# Altium integrated library Linear Technology Power Management System Supervisor, Monitor and Control.IntLib: 1611 symbols (part 1 of 100)
Pins are listed as number, name and electrical type; pins without a type are passive.

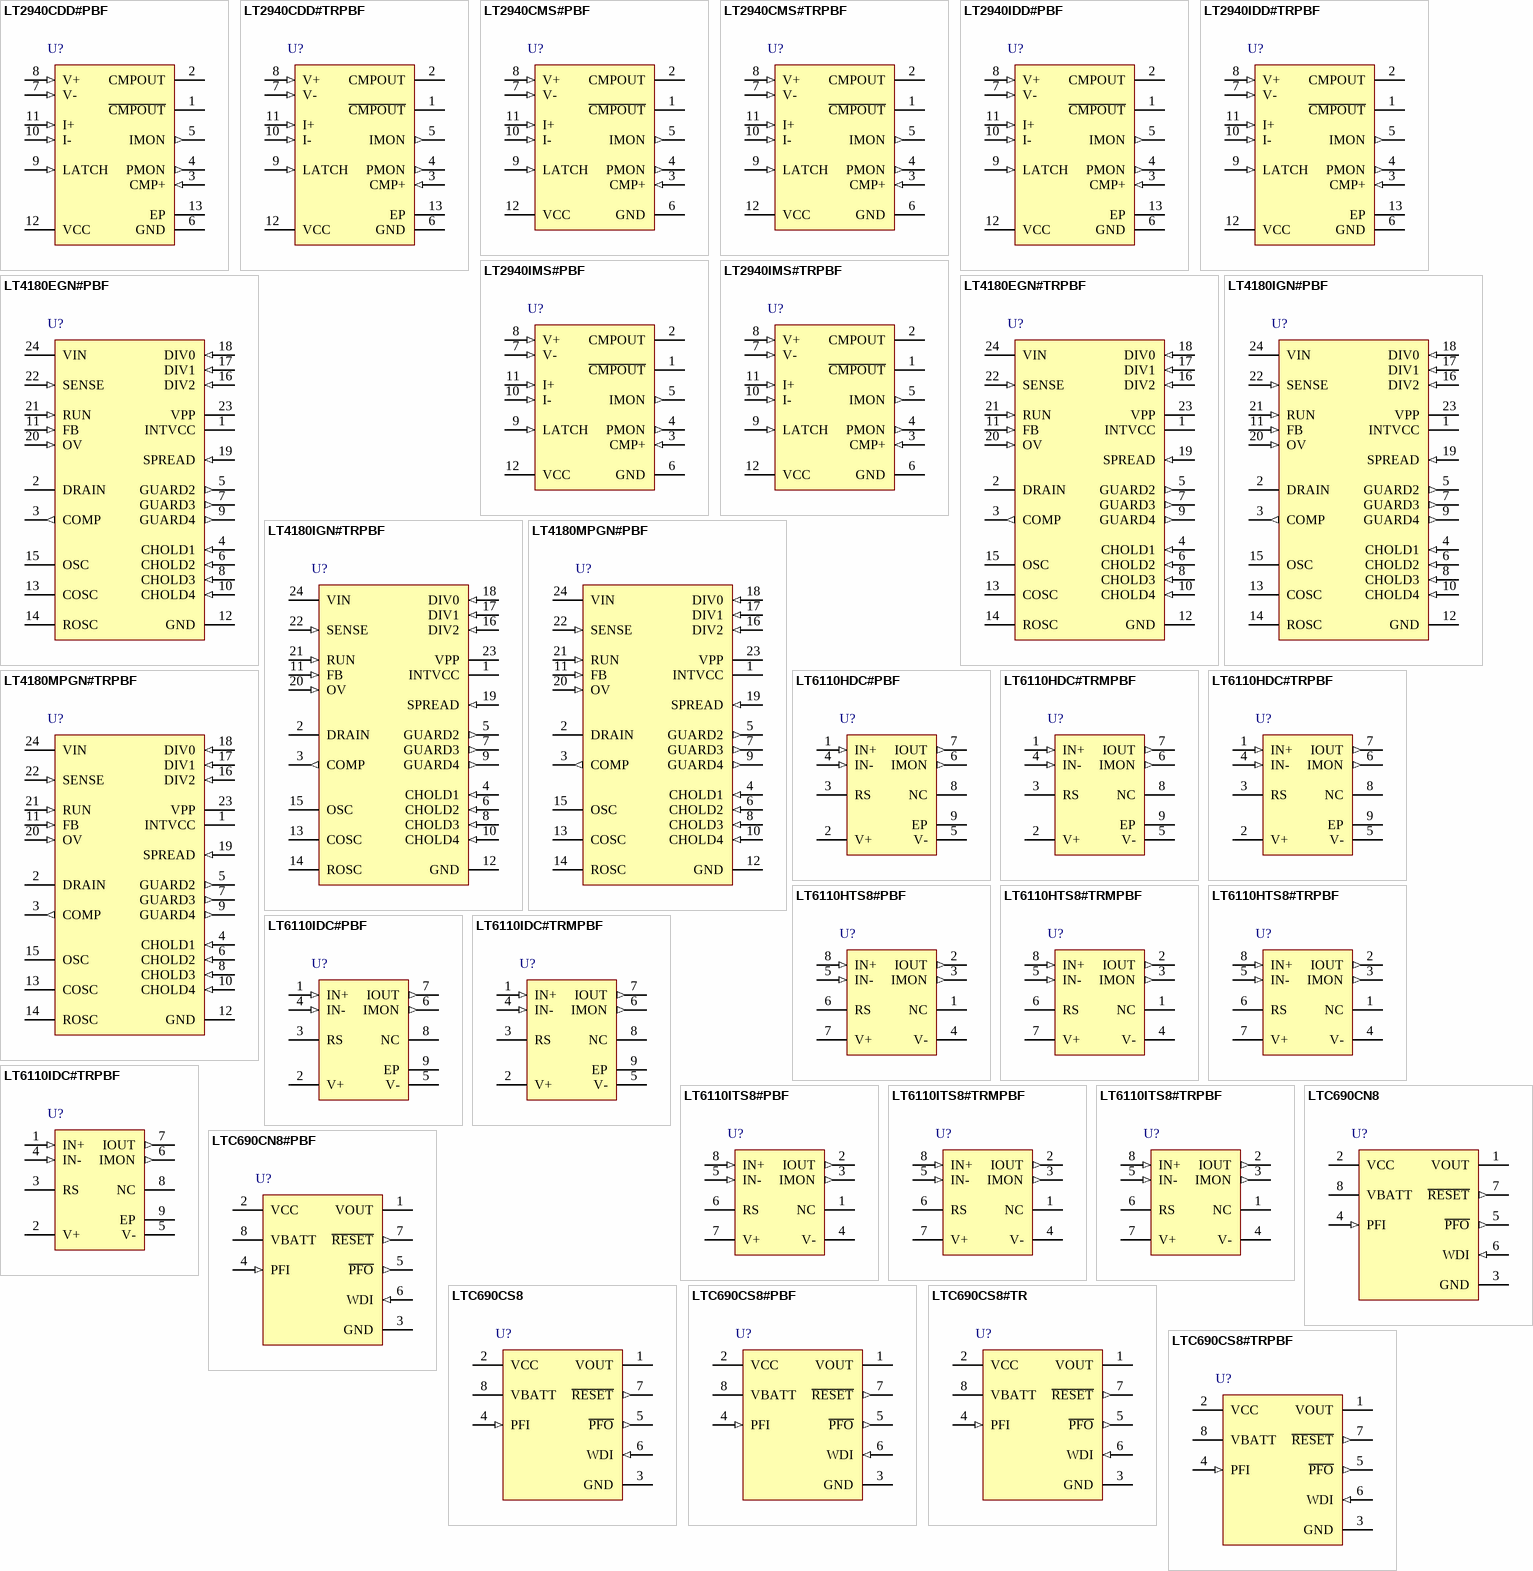
[diagram p0: symbols LT2940CDD#PBF to LTC690CS8#TRPBF]

## LT2940CDD#PBF
designator U?
Power and Current Monitor, 12-pin SON (DD-12), 0 to 70 degC, Pb-Free; Manufacturer: Linear Technology; PartNumber: LT2940CDD#PBF; Number of Supplies(#): 1; PackageVersion: Rev. A, 06/2010; PackageReference: DD-12; PackageDescription: 12-Pin Plastic DFN, Body 3 x 3 mm, Pitch 0.45 mm; Supplier 1: Digi-Key; Supplier Part Number 1: LT2940CDD#PBF-ND; Supplier 2: Farnell; Supplier Part Number 2: 1839156; Supplier 3: Newark; Supplier Part Number 3: 52R9871; RoHS: TRUE; Mounting Technology: Surface Mount; ComponentLink1Description: Manufacturer URL; ComponentLink1URL: http://www.linear.com/; ComponentLink2Description: Datasheet; ComponentLink2URL: http://cds.linear.com/docs/en/datasheet/2940f.pdf; ComponentLink3Description: Package Specification; ComponentLink3URL: http://cds.linear.com/docs/en/packaging/DFN_12_05-08-1725.pdf
footprint LT-DD-12_V (SON, 12-Leads, Body 3x3mm, Pitch 0.45mm, Thermal Pad 2.38x1.65mm)
pins: 1 ~{CMPOUT} (oc) "Inverting Open-Collector Comparator Output. When the LATCH pin’s state does not override the comparator, C\M\P\O\U\T\ pulls low when CMP+ > 1.24V. The pull-down shuts off when CMP+ < 1.21V, or VCC < 2.5V or when the LATC(See Datasheet)", 2 CMPOUT (oc) "Noninverting Open-Collector Comparator Output. When the LATCH pin’s state does not override the comparator, CMPOUT pulls low when CMP+ < 1.21V, or VCC < 2.5V, or when the LATCH pin is low. The pull-down shuts off when CMP(See Datasheet)", 3 CMP+ (in) "Positive Comparator Input. The integrated comparator resolves to high when the pin voltage exceeds the 1.24V internal reference. The comparator input has 35mV of negative hysteresis, which makes its falling trip point (See Datasheet)", 4 PMON (out) "Proportional-to-Power Monitor Output. This push-pull output sources or sinks a current proportional to the product of the voltage sense and current sense inputs. A resistor from PMON to GND creates a positive voltage when (See Datasheet)", 5 IMON (out) "Proportional-to-Current Monitor Output. This push-pull output sources or sinks a current proportional to the voltage at the current sense input, which is typically generated by a sense resistor that measures a current. A (See Datasheet)", 6 GND (power) "Device Ground.", 7 V- (in) "Voltage Sense Inputs. The voltage difference between these pins is the voltage input factor to the power calculation multiplier. The difference may be positive or negative, but both pin voltages must be at or above GND - (See Datasheet)", 8 V+ (in) "Voltage Sense Inputs. The voltage difference between these pins is the voltage input factor to the power calculation multiplier. The difference may be positive or negative, but both pin voltages must be at or above GND - (See Datasheet)", 9 LATCH (in) "Comparator Mode Input. Conditions at this three-state input pin control the comparator’s behavior. When LATCH is open, the comparator’s outputs track its input conditions (with hysteresis). When LATCH is held above 2.(See Datasheet)", 10 I- (in) "Current Sense Inputs. The voltage difference at these pins represents the current input factor to the power calculation multiplier and to the current scaler. The difference may be positive or negative, but both pin voltages (See Datasheet)", 11 I+ (in) "Current Sense Inputs. The voltage difference at these pins represents the current input factor to the power calculation multiplier and to the current scaler. The difference may be positive or negative, but both pin voltages (See Datasheet)", 12 VCC (power) "Voltage Supply. The voltage supply operating range is 6V to 80V. When operating with VCC > 15V, package heating can be reduced by adding an external series dropping resistor. Bypass this pin to GND to improve supply (See Datasheet)", 13 EP (power) "The exposed pad may be left open or connected to device ground. For best thermal performance, the exposed pad must be soldered to the PCB."

## LT2940CDD#TRPBF
designator U?
Power and Current Monitor, 12-pin SON (DD-12), 0 to 70 degC, Pb-Free, Tape and Reel; Manufacturer: Linear Technology; PartNumber: LT2940CDD#TRPBF; Number of Supplies(#): 1; PackageVersion: Rev. A, 06/2010; PackageReference: DD-12; PackageDescription: 12-Pin Plastic DFN, Body 3 x 3 mm, Pitch 0.45 mm; Supplier 1: Digi-Key; Supplier Part Number 1: LT2940CDD#TRPBF-ND; Packing: Tape and Reel; RoHS: TRUE; Mounting Technology: Surface Mount; ComponentLink1Description: Manufacturer URL; ComponentLink1URL: http://www.linear.com/; ComponentLink2Description: Datasheet; ComponentLink2URL: http://cds.linear.com/docs/en/datasheet/2940f.pdf; ComponentLink3Description: Package Specification; ComponentLink3URL: http://cds.linear.com/docs/en/packaging/DFN_12_05-08-1725.pdf
footprint LT-DD-12_V (SON, 12-Leads, Body 3x3mm, Pitch 0.45mm, Thermal Pad 2.38x1.65mm)
pins: 1 ~{CMPOUT} (oc) "Inverting Open-Collector Comparator Output. When the LATCH pin’s state does not override the comparator, C\M\P\O\U\T\ pulls low when CMP+ > 1.24V. The pull-down shuts off when CMP+ < 1.21V, or VCC < 2.5V or when the LATC(See Datasheet)", 2 CMPOUT (oc) "Noninverting Open-Collector Comparator Output. When the LATCH pin’s state does not override the comparator, CMPOUT pulls low when CMP+ < 1.21V, or VCC < 2.5V, or when the LATCH pin is low. The pull-down shuts off when CMP(See Datasheet)", 3 CMP+ (in) "Positive Comparator Input. The integrated comparator resolves to high when the pin voltage exceeds the 1.24V internal reference. The comparator input has 35mV of negative hysteresis, which makes its falling trip point (See Datasheet)", 4 PMON (out) "Proportional-to-Power Monitor Output. This push-pull output sources or sinks a current proportional to the product of the voltage sense and current sense inputs. A resistor from PMON to GND creates a positive voltage when (See Datasheet)", 5 IMON (out) "Proportional-to-Current Monitor Output. This push-pull output sources or sinks a current proportional to the voltage at the current sense input, which is typically generated by a sense resistor that measures a current. A (See Datasheet)", 6 GND (power) "Device Ground.", 7 V- (in) "Voltage Sense Inputs. The voltage difference between these pins is the voltage input factor to the power calculation multiplier. The difference may be positive or negative, but both pin voltages must be at or above GND - (See Datasheet)", 8 V+ (in) "Voltage Sense Inputs. The voltage difference between these pins is the voltage input factor to the power calculation multiplier. The difference may be positive or negative, but both pin voltages must be at or above GND - (See Datasheet)", 9 LATCH (in) "Comparator Mode Input. Conditions at this three-state input pin control the comparator’s behavior. When LATCH is open, the comparator’s outputs track its input conditions (with hysteresis). When LATCH is held above 2.(See Datasheet)", 10 I- (in) "Current Sense Inputs. The voltage difference at these pins represents the current input factor to the power calculation multiplier and to the current scaler. The difference may be positive or negative, but both pin voltages (See Datasheet)", 11 I+ (in) "Current Sense Inputs. The voltage difference at these pins represents the current input factor to the power calculation multiplier and to the current scaler. The difference may be positive or negative, but both pin voltages (See Datasheet)", 12 VCC (power) "Voltage Supply. The voltage supply operating range is 6V to 80V. When operating with VCC > 15V, package heating can be reduced by adding an external series dropping resistor. Bypass this pin to GND to improve supply (See Datasheet)", 13 EP (power) "The exposed pad may be left open or connected to device ground. For best thermal performance, the exposed pad must be soldered to the PCB."

## LT2940CMS#PBF
designator U?
Power and Current Monitor, 12-pin SOP (MS-12), 0 to 70 degC, Pb-Free; Manufacturer: Linear Technology; PartNumber: LT2940CMS#PBF; Number of Supplies(#): 1; PackageVersion: Rev. A, 05/2013; PackageReference: MS-12; PackageDescription: 12-Pin Plastic MSOP, Body 4.039 x 3 mm, Pitch 0.65 mm; Supplier 1: Digi-Key; Supplier Part Number 1: LT2940CMS#PBF-ND; Supplier 2: Farnell; Supplier Part Number 2: 1839157; Supplier 3: Newark; Supplier Part Number 3: 52R9872; RoHS: TRUE; Mounting Technology: Surface Mount; ComponentLink1Description: Manufacturer URL; ComponentLink1URL: http://www.linear.com/; ComponentLink2Description: Datasheet; ComponentLink2URL: http://cds.linear.com/docs/en/datasheet/2940f.pdf; ComponentLink3Description: Package Specification; ComponentLink3URL: http://cds.linear.com/docs/en/packaging/05081668_A_MS12.pdf
footprint LT-MS-12_N (SOP, 12-Leads, Body 4.1x3.1mm, Pitch 0.65mm, IPC Medium Density)
footprint LT-MS-12_L (SOP, 12-Leads, Body 4.1x3.1mm, Pitch 0.65mm, IPC High Density)
footprint LT-MS-12_M (SOP, 12-Leads, Body 4.1x3.1mm, Pitch 0.65mm, IPC Low Density)
pins: 1 ~{CMPOUT} (oc) "Inverting Open-Collector Comparator Output. When the LATCH pin’s state does not override the comparator, C\M\P\O\U\T\ pulls low when CMP+ > 1.24V. The pull-down shuts off when CMP+ < 1.21V, or VCC < 2.5V or when the LATC(See Datasheet)", 2 CMPOUT (oc) "Noninverting Open-Collector Comparator Output. When the LATCH pin’s state does not override the comparator, CMPOUT pulls low when CMP+ < 1.21V, or VCC < 2.5V, or when the LATCH pin is low. The pull-down shuts off when CMP(See Datasheet)", 3 CMP+ (in) "Positive Comparator Input. The integrated comparator resolves to high when the pin voltage exceeds the 1.24V internal reference. The comparator input has 35mV of negative hysteresis, which makes its falling trip point (See Datasheet)", 4 PMON (out) "Proportional-to-Power Monitor Output. This push-pull output sources or sinks a current proportional to the product of the voltage sense and current sense inputs. A resistor from PMON to GND creates a positive voltage when (See Datasheet)", 5 IMON (out) "Proportional-to-Current Monitor Output. This push-pull output sources or sinks a current proportional to the voltage at the current sense input, which is typically generated by a sense resistor that measures a current. A (See Datasheet)", 6 GND (power) "Device Ground.", 7 V- (in) "Voltage Sense Inputs. The voltage difference between these pins is the voltage input factor to the power calculation multiplier. The difference may be positive or negative, but both pin voltages must be at or above GND - (See Datasheet)", 8 V+ (in) "Voltage Sense Inputs. The voltage difference between these pins is the voltage input factor to the power calculation multiplier. The difference may be positive or negative, but both pin voltages must be at or above GND - (See Datasheet)", 9 LATCH (in) "Comparator Mode Input. Conditions at this three-state input pin control the comparator’s behavior. When LATCH is open, the comparator’s outputs track its input conditions (with hysteresis). When LATCH is held above 2.(See Datasheet)", 10 I- (in) "Current Sense Inputs. The voltage difference at these pins represents the current input factor to the power calculation multiplier and to the current scaler. The difference may be positive or negative, but both pin voltages (See Datasheet)", 11 I+ (in) "Current Sense Inputs. The voltage difference at these pins represents the current input factor to the power calculation multiplier and to the current scaler. The difference may be positive or negative, but both pin voltages (See Datasheet)", 12 VCC (power) "Voltage Supply. The voltage supply operating range is 6V to 80V. When operating with VCC > 15V, package heating can be reduced by adding an external series dropping resistor. Bypass this pin to GND to improve supply (See Datasheet)"

## LT2940CMS#TRPBF
designator U?
Power and Current Monitor, 12-pin SOP (MS-12), 0 to 70 degC, Pb-Free, Tape and Reel; Manufacturer: Linear Technology; PartNumber: LT2940CMS#TRPBF; Number of Supplies(#): 1; PackageVersion: Rev. A, 05/2013; PackageReference: MS-12; PackageDescription: 12-Pin Plastic MSOP, Body 4.039 x 3 mm, Pitch 0.65 mm; Supplier 1: Digi-Key; Supplier Part Number 1: LT2940CMS#TRPBF-ND; Packing: Tape and Reel; RoHS: TRUE; Mounting Technology: Surface Mount; ComponentLink1Description: Manufacturer URL; ComponentLink1URL: http://www.linear.com/; ComponentLink2Description: Datasheet; ComponentLink2URL: http://cds.linear.com/docs/en/datasheet/2940f.pdf; ComponentLink3Description: Package Specification; ComponentLink3URL: http://cds.linear.com/docs/en/packaging/05081668_A_MS12.pdf
footprint LT-MS-12_N (SOP, 12-Leads, Body 4.1x3.1mm, Pitch 0.65mm, IPC Medium Density)
footprint LT-MS-12_L (SOP, 12-Leads, Body 4.1x3.1mm, Pitch 0.65mm, IPC High Density)
footprint LT-MS-12_M (SOP, 12-Leads, Body 4.1x3.1mm, Pitch 0.65mm, IPC Low Density)
pins: 1 ~{CMPOUT} (oc) "Inverting Open-Collector Comparator Output. When the LATCH pin’s state does not override the comparator, C\M\P\O\U\T\ pulls low when CMP+ > 1.24V. The pull-down shuts off when CMP+ < 1.21V, or VCC < 2.5V or when the LATC(See Datasheet)", 2 CMPOUT (oc) "Noninverting Open-Collector Comparator Output. When the LATCH pin’s state does not override the comparator, CMPOUT pulls low when CMP+ < 1.21V, or VCC < 2.5V, or when the LATCH pin is low. The pull-down shuts off when CMP(See Datasheet)", 3 CMP+ (in) "Positive Comparator Input. The integrated comparator resolves to high when the pin voltage exceeds the 1.24V internal reference. The comparator input has 35mV of negative hysteresis, which makes its falling trip point (See Datasheet)", 4 PMON (out) "Proportional-to-Power Monitor Output. This push-pull output sources or sinks a current proportional to the product of the voltage sense and current sense inputs. A resistor from PMON to GND creates a positive voltage when (See Datasheet)", 5 IMON (out) "Proportional-to-Current Monitor Output. This push-pull output sources or sinks a current proportional to the voltage at the current sense input, which is typically generated by a sense resistor that measures a current. A (See Datasheet)", 6 GND (power) "Device Ground.", 7 V- (in) "Voltage Sense Inputs. The voltage difference between these pins is the voltage input factor to the power calculation multiplier. The difference may be positive or negative, but both pin voltages must be at or above GND - (See Datasheet)", 8 V+ (in) "Voltage Sense Inputs. The voltage difference between these pins is the voltage input factor to the power calculation multiplier. The difference may be positive or negative, but both pin voltages must be at or above GND - (See Datasheet)", 9 LATCH (in) "Comparator Mode Input. Conditions at this three-state input pin control the comparator’s behavior. When LATCH is open, the comparator’s outputs track its input conditions (with hysteresis). When LATCH is held above 2.(See Datasheet)", 10 I- (in) "Current Sense Inputs. The voltage difference at these pins represents the current input factor to the power calculation multiplier and to the current scaler. The difference may be positive or negative, but both pin voltages (See Datasheet)", 11 I+ (in) "Current Sense Inputs. The voltage difference at these pins represents the current input factor to the power calculation multiplier and to the current scaler. The difference may be positive or negative, but both pin voltages (See Datasheet)", 12 VCC (power) "Voltage Supply. The voltage supply operating range is 6V to 80V. When operating with VCC > 15V, package heating can be reduced by adding an external series dropping resistor. Bypass this pin to GND to improve supply (See Datasheet)"

## LT2940IDD#PBF
designator U?
Power and Current Monitor, 12-pin SON (DD-12), -40 to 85 degC, Pb-Free; Manufacturer: Linear Technology; PartNumber: LT2940IDD#PBF; Number of Supplies(#): 1; PackageVersion: Rev. A, 06/2010; PackageReference: DD-12; PackageDescription: 12-Pin Plastic DFN, Body 3 x 3 mm, Pitch 0.45 mm; Supplier 1: Digi-Key; Supplier Part Number 1: LT2940IDD#PBF-ND; Supplier 2: Farnell; Supplier Part Number 2: 1839158; Supplier 3: Newark; Supplier Part Number 3: 52R9873; RoHS: TRUE; Mounting Technology: Surface Mount; ComponentLink1Description: Manufacturer URL; ComponentLink1URL: http://www.linear.com/; ComponentLink2Description: Datasheet; ComponentLink2URL: http://cds.linear.com/docs/en/datasheet/2940f.pdf; ComponentLink3Description: Package Specification; ComponentLink3URL: http://cds.linear.com/docs/en/packaging/DFN_12_05-08-1725.pdf
footprint LT-DD-12_V (SON, 12-Leads, Body 3x3mm, Pitch 0.45mm, Thermal Pad 2.38x1.65mm)
pins: 1 ~{CMPOUT} (oc) "Inverting Open-Collector Comparator Output. When the LATCH pin’s state does not override the comparator, C\M\P\O\U\T\ pulls low when CMP+ > 1.24V. The pull-down shuts off when CMP+ < 1.21V, or VCC < 2.5V or when the LATC(See Datasheet)", 2 CMPOUT (oc) "Noninverting Open-Collector Comparator Output. When the LATCH pin’s state does not override the comparator, CMPOUT pulls low when CMP+ < 1.21V, or VCC < 2.5V, or when the LATCH pin is low. The pull-down shuts off when CMP(See Datasheet)", 3 CMP+ (in) "Positive Comparator Input. The integrated comparator resolves to high when the pin voltage exceeds the 1.24V internal reference. The comparator input has 35mV of negative hysteresis, which makes its falling trip point (See Datasheet)", 4 PMON (out) "Proportional-to-Power Monitor Output. This push-pull output sources or sinks a current proportional to the product of the voltage sense and current sense inputs. A resistor from PMON to GND creates a positive voltage when (See Datasheet)", 5 IMON (out) "Proportional-to-Current Monitor Output. This push-pull output sources or sinks a current proportional to the voltage at the current sense input, which is typically generated by a sense resistor that measures a current. A (See Datasheet)", 6 GND (power) "Device Ground.", 7 V- (in) "Voltage Sense Inputs. The voltage difference between these pins is the voltage input factor to the power calculation multiplier. The difference may be positive or negative, but both pin voltages must be at or above GND - (See Datasheet)", 8 V+ (in) "Voltage Sense Inputs. The voltage difference between these pins is the voltage input factor to the power calculation multiplier. The difference may be positive or negative, but both pin voltages must be at or above GND - (See Datasheet)", 9 LATCH (in) "Comparator Mode Input. Conditions at this three-state input pin control the comparator’s behavior. When LATCH is open, the comparator’s outputs track its input conditions (with hysteresis). When LATCH is held above 2.(See Datasheet)", 10 I- (in) "Current Sense Inputs. The voltage difference at these pins represents the current input factor to the power calculation multiplier and to the current scaler. The difference may be positive or negative, but both pin voltages (See Datasheet)", 11 I+ (in) "Current Sense Inputs. The voltage difference at these pins represents the current input factor to the power calculation multiplier and to the current scaler. The difference may be positive or negative, but both pin voltages (See Datasheet)", 12 VCC (power) "Voltage Supply. The voltage supply operating range is 6V to 80V. When operating with VCC > 15V, package heating can be reduced by adding an external series dropping resistor. Bypass this pin to GND to improve supply (See Datasheet)", 13 EP (power) "The exposed pad may be left open or connected to device ground. For best thermal performance, the exposed pad must be soldered to the PCB."

## LT2940IDD#TRPBF
designator U?
Power and Current Monitor, 12-pin SON (DD-12), -40 to 85 degC, Pb-Free, Tape and Reel; Manufacturer: Linear Technology; PartNumber: LT2940IDD#TRPBF; Number of Supplies(#): 1; PackageVersion: Rev. A, 06/2010; PackageReference: DD-12; PackageDescription: 12-Pin Plastic DFN, Body 3 x 3 mm, Pitch 0.45 mm; Supplier 1: Digi-Key; Supplier Part Number 1: LT2940IDD#TRPBF-ND; Packing: Tape and Reel; RoHS: TRUE; Mounting Technology: Surface Mount; ComponentLink1Description: Manufacturer URL; ComponentLink1URL: http://www.linear.com/; ComponentLink2Description: Datasheet; ComponentLink2URL: http://cds.linear.com/docs/en/datasheet/2940f.pdf; ComponentLink3Description: Package Specification; ComponentLink3URL: http://cds.linear.com/docs/en/packaging/DFN_12_05-08-1725.pdf
footprint LT-DD-12_V (SON, 12-Leads, Body 3x3mm, Pitch 0.45mm, Thermal Pad 2.38x1.65mm)
pins: 1 ~{CMPOUT} (oc) "Inverting Open-Collector Comparator Output. When the LATCH pin’s state does not override the comparator, C\M\P\O\U\T\ pulls low when CMP+ > 1.24V. The pull-down shuts off when CMP+ < 1.21V, or VCC < 2.5V or when the LATC(See Datasheet)", 2 CMPOUT (oc) "Noninverting Open-Collector Comparator Output. When the LATCH pin’s state does not override the comparator, CMPOUT pulls low when CMP+ < 1.21V, or VCC < 2.5V, or when the LATCH pin is low. The pull-down shuts off when CMP(See Datasheet)", 3 CMP+ (in) "Positive Comparator Input. The integrated comparator resolves to high when the pin voltage exceeds the 1.24V internal reference. The comparator input has 35mV of negative hysteresis, which makes its falling trip point (See Datasheet)", 4 PMON (out) "Proportional-to-Power Monitor Output. This push-pull output sources or sinks a current proportional to the product of the voltage sense and current sense inputs. A resistor from PMON to GND creates a positive voltage when (See Datasheet)", 5 IMON (out) "Proportional-to-Current Monitor Output. This push-pull output sources or sinks a current proportional to the voltage at the current sense input, which is typically generated by a sense resistor that measures a current. A (See Datasheet)", 6 GND (power) "Device Ground.", 7 V- (in) "Voltage Sense Inputs. The voltage difference between these pins is the voltage input factor to the power calculation multiplier. The difference may be positive or negative, but both pin voltages must be at or above GND - (See Datasheet)", 8 V+ (in) "Voltage Sense Inputs. The voltage difference between these pins is the voltage input factor to the power calculation multiplier. The difference may be positive or negative, but both pin voltages must be at or above GND - (See Datasheet)", 9 LATCH (in) "Comparator Mode Input. Conditions at this three-state input pin control the comparator’s behavior. When LATCH is open, the comparator’s outputs track its input conditions (with hysteresis). When LATCH is held above 2.(See Datasheet)", 10 I- (in) "Current Sense Inputs. The voltage difference at these pins represents the current input factor to the power calculation multiplier and to the current scaler. The difference may be positive or negative, but both pin voltages (See Datasheet)", 11 I+ (in) "Current Sense Inputs. The voltage difference at these pins represents the current input factor to the power calculation multiplier and to the current scaler. The difference may be positive or negative, but both pin voltages (See Datasheet)", 12 VCC (power) "Voltage Supply. The voltage supply operating range is 6V to 80V. When operating with VCC > 15V, package heating can be reduced by adding an external series dropping resistor. Bypass this pin to GND to improve supply (See Datasheet)", 13 EP (power) "The exposed pad may be left open or connected to device ground. For best thermal performance, the exposed pad must be soldered to the PCB."

## LT2940IMS#PBF
designator U?
Power and Current Monitor, 12-pin SOP (MS-12), -40 to 85 degC, Pb-Free; Manufacturer: Linear Technology; PartNumber: LT2940IMS#PBF; Number of Supplies(#): 1; PackageVersion: Rev. A, 05/2013; PackageReference: MS-12; PackageDescription: 12-Pin Plastic MSOP, Body 4.039 x 3 mm, Pitch 0.65 mm; Supplier 1: Digi-Key; Supplier Part Number 1: LT2940IMS#PBF-ND; Supplier 2: Newark; Supplier Part Number 2: 52R9874; RoHS: TRUE; Mounting Technology: Surface Mount; ComponentLink1Description: Manufacturer URL; ComponentLink1URL: http://www.linear.com/; ComponentLink2Description: Datasheet; ComponentLink2URL: http://cds.linear.com/docs/en/datasheet/2940f.pdf; ComponentLink3Description: Package Specification; ComponentLink3URL: http://cds.linear.com/docs/en/packaging/05081668_A_MS12.pdf
footprint LT-MS-12_N (SOP, 12-Leads, Body 4.1x3.1mm, Pitch 0.65mm, IPC Medium Density)
footprint LT-MS-12_L (SOP, 12-Leads, Body 4.1x3.1mm, Pitch 0.65mm, IPC High Density)
footprint LT-MS-12_M (SOP, 12-Leads, Body 4.1x3.1mm, Pitch 0.65mm, IPC Low Density)
pins: 1 ~{CMPOUT} (oc) "Inverting Open-Collector Comparator Output. When the LATCH pin’s state does not override the comparator, C\M\P\O\U\T\ pulls low when CMP+ > 1.24V. The pull-down shuts off when CMP+ < 1.21V, or VCC < 2.5V or when the LATC(See Datasheet)", 2 CMPOUT (oc) "Noninverting Open-Collector Comparator Output. When the LATCH pin’s state does not override the comparator, CMPOUT pulls low when CMP+ < 1.21V, or VCC < 2.5V, or when the LATCH pin is low. The pull-down shuts off when CMP(See Datasheet)", 3 CMP+ (in) "Positive Comparator Input. The integrated comparator resolves to high when the pin voltage exceeds the 1.24V internal reference. The comparator input has 35mV of negative hysteresis, which makes its falling trip point (See Datasheet)", 4 PMON (out) "Proportional-to-Power Monitor Output. This push-pull output sources or sinks a current proportional to the product of the voltage sense and current sense inputs. A resistor from PMON to GND creates a positive voltage when (See Datasheet)", 5 IMON (out) "Proportional-to-Current Monitor Output. This push-pull output sources or sinks a current proportional to the voltage at the current sense input, which is typically generated by a sense resistor that measures a current. A (See Datasheet)", 6 GND (power) "Device Ground.", 7 V- (in) "Voltage Sense Inputs. The voltage difference between these pins is the voltage input factor to the power calculation multiplier. The difference may be positive or negative, but both pin voltages must be at or above GND - (See Datasheet)", 8 V+ (in) "Voltage Sense Inputs. The voltage difference between these pins is the voltage input factor to the power calculation multiplier. The difference may be positive or negative, but both pin voltages must be at or above GND - (See Datasheet)", 9 LATCH (in) "Comparator Mode Input. Conditions at this three-state input pin control the comparator’s behavior. When LATCH is open, the comparator’s outputs track its input conditions (with hysteresis). When LATCH is held above 2.(See Datasheet)", 10 I- (in) "Current Sense Inputs. The voltage difference at these pins represents the current input factor to the power calculation multiplier and to the current scaler. The difference may be positive or negative, but both pin voltages (See Datasheet)", 11 I+ (in) "Current Sense Inputs. The voltage difference at these pins represents the current input factor to the power calculation multiplier and to the current scaler. The difference may be positive or negative, but both pin voltages (See Datasheet)", 12 VCC (power) "Voltage Supply. The voltage supply operating range is 6V to 80V. When operating with VCC > 15V, package heating can be reduced by adding an external series dropping resistor. Bypass this pin to GND to improve supply (See Datasheet)"

## LT2940IMS#TRPBF
designator U?
Power and Current Monitor, 12-pin SOP (MS-12), -40 to 85 degC, Pb-Free, Tape and Reel; Manufacturer: Linear Technology; PartNumber: LT2940IMS#TRPBF; Number of Supplies(#): 1; PackageVersion: Rev. A, 05/2013; PackageReference: MS-12; PackageDescription: 12-Pin Plastic MSOP, Body 4.039 x 3 mm, Pitch 0.65 mm; Supplier 1: Digi-Key; Supplier Part Number 1: LT2940IMS#TRPBF-ND; Supplier 2: Newark; Supplier Part Number 2: 72R5789; Packing: Tape and Reel; RoHS: TRUE; Mounting Technology: Surface Mount; ComponentLink1Description: Manufacturer URL; ComponentLink1URL: http://www.linear.com/; ComponentLink2Description: Datasheet; ComponentLink2URL: http://cds.linear.com/docs/en/datasheet/2940f.pdf; ComponentLink3Description: Package Specification; ComponentLink3URL: http://cds.linear.com/docs/en/packaging/05081668_A_MS12.pdf
footprint LT-MS-12_N (SOP, 12-Leads, Body 4.1x3.1mm, Pitch 0.65mm, IPC Medium Density)
footprint LT-MS-12_L (SOP, 12-Leads, Body 4.1x3.1mm, Pitch 0.65mm, IPC High Density)
footprint LT-MS-12_M (SOP, 12-Leads, Body 4.1x3.1mm, Pitch 0.65mm, IPC Low Density)
pins: 1 ~{CMPOUT} (oc) "Inverting Open-Collector Comparator Output. When the LATCH pin’s state does not override the comparator, C\M\P\O\U\T\ pulls low when CMP+ > 1.24V. The pull-down shuts off when CMP+ < 1.21V, or VCC < 2.5V or when the LATC(See Datasheet)", 2 CMPOUT (oc) "Noninverting Open-Collector Comparator Output. When the LATCH pin’s state does not override the comparator, CMPOUT pulls low when CMP+ < 1.21V, or VCC < 2.5V, or when the LATCH pin is low. The pull-down shuts off when CMP(See Datasheet)", 3 CMP+ (in) "Positive Comparator Input. The integrated comparator resolves to high when the pin voltage exceeds the 1.24V internal reference. The comparator input has 35mV of negative hysteresis, which makes its falling trip point (See Datasheet)", 4 PMON (out) "Proportional-to-Power Monitor Output. This push-pull output sources or sinks a current proportional to the product of the voltage sense and current sense inputs. A resistor from PMON to GND creates a positive voltage when (See Datasheet)", 5 IMON (out) "Proportional-to-Current Monitor Output. This push-pull output sources or sinks a current proportional to the voltage at the current sense input, which is typically generated by a sense resistor that measures a current. A (See Datasheet)", 6 GND (power) "Device Ground.", 7 V- (in) "Voltage Sense Inputs. The voltage difference between these pins is the voltage input factor to the power calculation multiplier. The difference may be positive or negative, but both pin voltages must be at or above GND - (See Datasheet)", 8 V+ (in) "Voltage Sense Inputs. The voltage difference between these pins is the voltage input factor to the power calculation multiplier. The difference may be positive or negative, but both pin voltages must be at or above GND - (See Datasheet)", 9 LATCH (in) "Comparator Mode Input. Conditions at this three-state input pin control the comparator’s behavior. When LATCH is open, the comparator’s outputs track its input conditions (with hysteresis). When LATCH is held above 2.(See Datasheet)", 10 I- (in) "Current Sense Inputs. The voltage difference at these pins represents the current input factor to the power calculation multiplier and to the current scaler. The difference may be positive or negative, but both pin voltages (See Datasheet)", 11 I+ (in) "Current Sense Inputs. The voltage difference at these pins represents the current input factor to the power calculation multiplier and to the current scaler. The difference may be positive or negative, but both pin voltages (See Datasheet)", 12 VCC (power) "Voltage Supply. The voltage supply operating range is 6V to 80V. When operating with VCC > 15V, package heating can be reduced by adding an external series dropping resistor. Bypass this pin to GND to improve supply (See Datasheet)"

## LT4180EGN#PBF
designator U?
Virtual Remote Sense Controller, 24-pin SOP (GN24), -40 to 125 degC, Pb-Free; Manufacturer: Linear Technology; PartNumber: LT4180EGN#PBF; Number of Supplies(#): 1; DatasheetVersion: Rev. B; PackageVersion: Rev. B, 03/2012; PackageReference: GN24; PackageDescription: 24-Pin Plastic SSOP , Body 8.5 x 3.9 mm, Pitch 0.635 mm; Supplier 1: Digi-Key; Supplier Part Number 1: LT4180EGN#PBF-ND; Supplier 2: Farnell; Supplier Part Number 2: 1839076; Supplier 3: Newark; Supplier Part Number 3: 74R1376; RoHS: TRUE; Mounting Technology: Surface Mount; ComponentLink1Description: Manufacturer URL; ComponentLink1URL: http://www.linear.com/; ComponentLink2Description: Datasheet; ComponentLink2URL: http://cds.linear.com/docs/en/datasheet/4180fb.pdf; ComponentLink3Description: Package Specification; ComponentLink3URL: http://cds.linear.com/docs/en/packaging/05081641_B_GN24.pdf
footprint LT-GN-24_N (SOP, 24-Leads, Body 8.7x4mm, Pitch 0.635mm, IPC Medium Density)
footprint LT-GN-24_L (SOP, 24-Leads, Body 8.7x4mm, Pitch 0.635mm, IPC High Density)
footprint LT-GN-24_M (SOP, 24-Leads, Body 8.7x4mm, Pitch 0.635mm, IPC Low Density)
pins: 1 INTVCC (power) "The LDO Output. A low ESR ceramic capacitor provides decoupling and output compensation. 1uF or more should be used.", 2 DRAIN (oc) "Open-Drain of the Output Transistor. This pin drives either the LED in an opto-isolator, or pulls down on the regulator control pin.", 3 COMP (out) "Gate of the Output Transistor. This pin allows additional compensation. It must be left open if unused.", 4 CHOLD1 (in) "Connects to track/hold amplifier hold capacitor. The other end of this capacitor should be Kelvin connected to GND.", 5 GUARD2 (out) "Guard Ring Drive for CHOLD2.", 6 CHOLD2 (in) "Connects to track/hold amplifier hold capacitor. The other end of this capacitor should be Kelvin connected to GND.", 7 GUARD3 (out) "Guard Ring Drive for CHOLD3.", 8 CHOLD3 (in) "Connects to track/hold amplifier hold capacitor. The other end of this capacitor should be Kelvin connected to GND.", 9 GUARD4 (out) "Guard Ring Drive for CHOLD4.", 10 CHOLD4 (in) "Connects to track/hold amplifier hold capacitor. The other end of this capacitor should be Kelvin connected to GND.", 11 FB (in) "Receives the feedback voltage from an external resistor divider across the main output. An (optional) capacitor to ground may be added to eliminate high frequency noise. The time constant for this RC network should be no (See Datasheet)", 12 GND (power) "Ground.", 13 COSC "Oscillator Timing Capacitor. Oscillator frequency is set by this capacitor and ROSC. For best accuracy, the minimum recommended capacitance is 100pF.", 14 ROSC "Oscillator Timing Resistor. Oscillator frequency is set by this resistor and COSC.", 15 OSC "Oscillator Output. This output may be used to synchronize the switching regulator to the Virtual Remote Sense. This is a high current output capable of driving opto-isolators. Other isolation methods may also be used with (See Datasheet)", 16 DIV2 (in) "Dither Division Ratio Programming Pin.", 17 DIV1 (in) "Dither Division Ratio Programming Pin.", 18 DIV0 (in) "Dither Division Ratio Programming Pin.", 19 SPREAD (in) "Spread Spectrum Enable Input. Dither phasing is pseudo-randomly adjusted when SPREAD is tied high.", 20 OV (in) "Overvoltage Comparator Input. This prevents line drop correction when wiring drops would cause excessive switching power supply output voltage. Set OV so VREG(MAX) =< 1.50VLOAD.", 21 RUN (in) "The RUN pin provides the user with an accurate means for sensing the input voltage and programming the start-up threshold for the line drop corrector.", 22 SENSE (in) "Current Sense Input. This input connects to the current sense resistor. Kelvin connect to RSENSE.", 23 VPP (power) "Connect this pin to INTVCC.", 24 VIN (power) "Main Supply Pin. VIN must be locally bypassed to ground. Kelvin connect the current sense resistor to this pin and minimize interconnect resistance."

## LT4180EGN#TRPBF
designator U?
Virtual Remote Sense Controller, 24-pin SOP (GN24), -40 to 125 degC, Pb-Free, Tape and Reel; Manufacturer: Linear Technology; PartNumber: LT4180EGN#TRPBF; Number of Supplies(#): 1; DatasheetVersion: Rev. B; PackageVersion: Rev. B, 03/2012; PackageReference: GN24; PackageDescription: 24-Pin Plastic SSOP , Body 8.5 x 3.9 mm, Pitch 0.635 mm; Supplier 1: Digi-Key; Supplier Part Number 1: LT4180EGN#TRPBF-ND; Packing: Tape and Reel; RoHS: TRUE; Mounting Technology: Surface Mount; ComponentLink1Description: Manufacturer URL; ComponentLink1URL: http://www.linear.com/; ComponentLink2Description: Datasheet; ComponentLink2URL: http://cds.linear.com/docs/en/datasheet/4180fb.pdf; ComponentLink3Description: Package Specification; ComponentLink3URL: http://cds.linear.com/docs/en/packaging/05081641_B_GN24.pdf
footprint LT-GN-24_N (SOP, 24-Leads, Body 8.7x4mm, Pitch 0.635mm, IPC Medium Density)
footprint LT-GN-24_L (SOP, 24-Leads, Body 8.7x4mm, Pitch 0.635mm, IPC High Density)
footprint LT-GN-24_M (SOP, 24-Leads, Body 8.7x4mm, Pitch 0.635mm, IPC Low Density)
pins: 1 INTVCC (power) "The LDO Output. A low ESR ceramic capacitor provides decoupling and output compensation. 1uF or more should be used.", 2 DRAIN (oc) "Open-Drain of the Output Transistor. This pin drives either the LED in an opto-isolator, or pulls down on the regulator control pin.", 3 COMP (out) "Gate of the Output Transistor. This pin allows additional compensation. It must be left open if unused.", 4 CHOLD1 (in) "Connects to track/hold amplifier hold capacitor. The other end of this capacitor should be Kelvin connected to GND.", 5 GUARD2 (out) "Guard Ring Drive for CHOLD2.", 6 CHOLD2 (in) "Connects to track/hold amplifier hold capacitor. The other end of this capacitor should be Kelvin connected to GND.", 7 GUARD3 (out) "Guard Ring Drive for CHOLD3.", 8 CHOLD3 (in) "Connects to track/hold amplifier hold capacitor. The other end of this capacitor should be Kelvin connected to GND.", 9 GUARD4 (out) "Guard Ring Drive for CHOLD4.", 10 CHOLD4 (in) "Connects to track/hold amplifier hold capacitor. The other end of this capacitor should be Kelvin connected to GND.", 11 FB (in) "Receives the feedback voltage from an external resistor divider across the main output. An (optional) capacitor to ground may be added to eliminate high frequency noise. The time constant for this RC network should be no (See Datasheet)", 12 GND (power) "Ground.", 13 COSC "Oscillator Timing Capacitor. Oscillator frequency is set by this capacitor and ROSC. For best accuracy, the minimum recommended capacitance is 100pF.", 14 ROSC "Oscillator Timing Resistor. Oscillator frequency is set by this resistor and COSC.", 15 OSC "Oscillator Output. This output may be used to synchronize the switching regulator to the Virtual Remote Sense. This is a high current output capable of driving opto-isolators. Other isolation methods may also be used with (See Datasheet)", 16 DIV2 (in) "Dither Division Ratio Programming Pin.", 17 DIV1 (in) "Dither Division Ratio Programming Pin.", 18 DIV0 (in) "Dither Division Ratio Programming Pin.", 19 SPREAD (in) "Spread Spectrum Enable Input. Dither phasing is pseudo-randomly adjusted when SPREAD is tied high.", 20 OV (in) "Overvoltage Comparator Input. This prevents line drop correction when wiring drops would cause excessive switching power supply output voltage. Set OV so VREG(MAX) =< 1.50VLOAD.", 21 RUN (in) "The RUN pin provides the user with an accurate means for sensing the input voltage and programming the start-up threshold for the line drop corrector.", 22 SENSE (in) "Current Sense Input. This input connects to the current sense resistor. Kelvin connect to RSENSE.", 23 VPP (power) "Connect this pin to INTVCC.", 24 VIN (power) "Main Supply Pin. VIN must be locally bypassed to ground. Kelvin connect the current sense resistor to this pin and minimize interconnect resistance."

## LT4180IGN#PBF
designator U?
Virtual Remote Sense Controller, 24-pin SOP (GN24), -40 to 125 degC, Pb-Free; Manufacturer: Linear Technology; PartNumber: LT4180IGN#PBF; Number of Supplies(#): 1; DatasheetVersion: Rev. B; PackageVersion: Rev. B, 03/2012; PackageReference: GN24; PackageDescription: 24-Pin Plastic SSOP , Body 8.5 x 3.9 mm, Pitch 0.635 mm; Supplier 1: Digi-Key; Supplier Part Number 1: LT4180IGN#PBF-ND; Supplier 2: Farnell; Supplier Part Number 2: 1839077; Supplier 3: Newark; Supplier Part Number 3: 74R1377; RoHS: TRUE; Mounting Technology: Surface Mount; ComponentLink1Description: Manufacturer URL; ComponentLink1URL: http://www.linear.com/; ComponentLink2Description: Datasheet; ComponentLink2URL: http://cds.linear.com/docs/en/datasheet/4180fb.pdf; ComponentLink3Description: Package Specification; ComponentLink3URL: http://cds.linear.com/docs/en/packaging/05081641_B_GN24.pdf
footprint LT-GN-24_N (SOP, 24-Leads, Body 8.7x4mm, Pitch 0.635mm, IPC Medium Density)
footprint LT-GN-24_L (SOP, 24-Leads, Body 8.7x4mm, Pitch 0.635mm, IPC High Density)
footprint LT-GN-24_M (SOP, 24-Leads, Body 8.7x4mm, Pitch 0.635mm, IPC Low Density)
pins: 1 INTVCC (power) "The LDO Output. A low ESR ceramic capacitor provides decoupling and output compensation. 1uF or more should be used.", 2 DRAIN (oc) "Open-Drain of the Output Transistor. This pin drives either the LED in an opto-isolator, or pulls down on the regulator control pin.", 3 COMP (out) "Gate of the Output Transistor. This pin allows additional compensation. It must be left open if unused.", 4 CHOLD1 (in) "Connects to track/hold amplifier hold capacitor. The other end of this capacitor should be Kelvin connected to GND.", 5 GUARD2 (out) "Guard Ring Drive for CHOLD2.", 6 CHOLD2 (in) "Connects to track/hold amplifier hold capacitor. The other end of this capacitor should be Kelvin connected to GND.", 7 GUARD3 (out) "Guard Ring Drive for CHOLD3.", 8 CHOLD3 (in) "Connects to track/hold amplifier hold capacitor. The other end of this capacitor should be Kelvin connected to GND.", 9 GUARD4 (out) "Guard Ring Drive for CHOLD4.", 10 CHOLD4 (in) "Connects to track/hold amplifier hold capacitor. The other end of this capacitor should be Kelvin connected to GND.", 11 FB (in) "Receives the feedback voltage from an external resistor divider across the main output. An (optional) capacitor to ground may be added to eliminate high frequency noise. The time constant for this RC network should be no (See Datasheet)", 12 GND (power) "Ground.", 13 COSC "Oscillator Timing Capacitor. Oscillator frequency is set by this capacitor and ROSC. For best accuracy, the minimum recommended capacitance is 100pF.", 14 ROSC "Oscillator Timing Resistor. Oscillator frequency is set by this resistor and COSC.", 15 OSC "Oscillator Output. This output may be used to synchronize the switching regulator to the Virtual Remote Sense. This is a high current output capable of driving opto-isolators. Other isolation methods may also be used with (See Datasheet)", 16 DIV2 (in) "Dither Division Ratio Programming Pin.", 17 DIV1 (in) "Dither Division Ratio Programming Pin.", 18 DIV0 (in) "Dither Division Ratio Programming Pin.", 19 SPREAD (in) "Spread Spectrum Enable Input. Dither phasing is pseudo-randomly adjusted when SPREAD is tied high.", 20 OV (in) "Overvoltage Comparator Input. This prevents line drop correction when wiring drops would cause excessive switching power supply output voltage. Set OV so VREG(MAX) =< 1.50VLOAD.", 21 RUN (in) "The RUN pin provides the user with an accurate means for sensing the input voltage and programming the start-up threshold for the line drop corrector.", 22 SENSE (in) "Current Sense Input. This input connects to the current sense resistor. Kelvin connect to RSENSE.", 23 VPP (power) "Connect this pin to INTVCC.", 24 VIN (power) "Main Supply Pin. VIN must be locally bypassed to ground. Kelvin connect the current sense resistor to this pin and minimize interconnect resistance."

## LT4180IGN#TRPBF
designator U?
Virtual Remote Sense Controller, 24-pin SOP (GN24), -40 to 125 degC, Pb-Free, Tape and Reel; Manufacturer: Linear Technology; PartNumber: LT4180IGN#TRPBF; Number of Supplies(#): 1; DatasheetVersion: Rev. B; PackageVersion: Rev. B, 03/2012; PackageReference: GN24; PackageDescription: 24-Pin Plastic SSOP , Body 8.5 x 3.9 mm, Pitch 0.635 mm; Supplier 1: Digi-Key; Supplier Part Number 1: LT4180IGN#TRPBF-ND; Packing: Tape and Reel; RoHS: TRUE; Mounting Technology: Surface Mount; ComponentLink1Description: Manufacturer URL; ComponentLink1URL: http://www.linear.com/; ComponentLink2Description: Datasheet; ComponentLink2URL: http://cds.linear.com/docs/en/datasheet/4180fb.pdf; ComponentLink3Description: Package Specification; ComponentLink3URL: http://cds.linear.com/docs/en/packaging/05081641_B_GN24.pdf
footprint LT-GN-24_N (SOP, 24-Leads, Body 8.7x4mm, Pitch 0.635mm, IPC Medium Density)
footprint LT-GN-24_L (SOP, 24-Leads, Body 8.7x4mm, Pitch 0.635mm, IPC High Density)
footprint LT-GN-24_M (SOP, 24-Leads, Body 8.7x4mm, Pitch 0.635mm, IPC Low Density)
pins: 1 INTVCC (power) "The LDO Output. A low ESR ceramic capacitor provides decoupling and output compensation. 1uF or more should be used.", 2 DRAIN (oc) "Open-Drain of the Output Transistor. This pin drives either the LED in an opto-isolator, or pulls down on the regulator control pin.", 3 COMP (out) "Gate of the Output Transistor. This pin allows additional compensation. It must be left open if unused.", 4 CHOLD1 (in) "Connects to track/hold amplifier hold capacitor. The other end of this capacitor should be Kelvin connected to GND.", 5 GUARD2 (out) "Guard Ring Drive for CHOLD2.", 6 CHOLD2 (in) "Connects to track/hold amplifier hold capacitor. The other end of this capacitor should be Kelvin connected to GND.", 7 GUARD3 (out) "Guard Ring Drive for CHOLD3.", 8 CHOLD3 (in) "Connects to track/hold amplifier hold capacitor. The other end of this capacitor should be Kelvin connected to GND.", 9 GUARD4 (out) "Guard Ring Drive for CHOLD4.", 10 CHOLD4 (in) "Connects to track/hold amplifier hold capacitor. The other end of this capacitor should be Kelvin connected to GND.", 11 FB (in) "Receives the feedback voltage from an external resistor divider across the main output. An (optional) capacitor to ground may be added to eliminate high frequency noise. The time constant for this RC network should be no (See Datasheet)", 12 GND (power) "Ground.", 13 COSC "Oscillator Timing Capacitor. Oscillator frequency is set by this capacitor and ROSC. For best accuracy, the minimum recommended capacitance is 100pF.", 14 ROSC "Oscillator Timing Resistor. Oscillator frequency is set by this resistor and COSC.", 15 OSC "Oscillator Output. This output may be used to synchronize the switching regulator to the Virtual Remote Sense. This is a high current output capable of driving opto-isolators. Other isolation methods may also be used with (See Datasheet)", 16 DIV2 (in) "Dither Division Ratio Programming Pin.", 17 DIV1 (in) "Dither Division Ratio Programming Pin.", 18 DIV0 (in) "Dither Division Ratio Programming Pin.", 19 SPREAD (in) "Spread Spectrum Enable Input. Dither phasing is pseudo-randomly adjusted when SPREAD is tied high.", 20 OV (in) "Overvoltage Comparator Input. This prevents line drop correction when wiring drops would cause excessive switching power supply output voltage. Set OV so VREG(MAX) =< 1.50VLOAD.", 21 RUN (in) "The RUN pin provides the user with an accurate means for sensing the input voltage and programming the start-up threshold for the line drop corrector.", 22 SENSE (in) "Current Sense Input. This input connects to the current sense resistor. Kelvin connect to RSENSE.", 23 VPP (power) "Connect this pin to INTVCC.", 24 VIN (power) "Main Supply Pin. VIN must be locally bypassed to ground. Kelvin connect the current sense resistor to this pin and minimize interconnect resistance."